# EAGLE library part MEAS-MS5611 (library OSURC_Sensors)
Fast, accurate barometer.
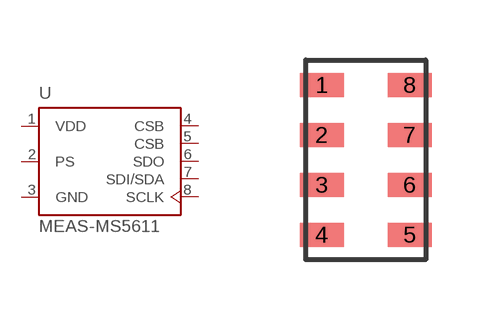
[diagram p0: symbol with the pads of MEAS-MS5611; footprint MEAS-MS5611]

Designator prefix U

## MEAS-MS5611 (CDI_PN: MS561101BA03-50)  [MEAS-MS5611]
1  VDD  pwr
2  PS  in
3  GND  pwr
4  CSB  in
5  CSB  in
6  SDO  out
7  SDI/SDA
8  SCLK  in

## Footprint MEAS-MS5611 (pad centres in mm)
smd 1.1 x 0.6: 1 -1.1,1.875; 2 -1.1,0.625; 3 -1.1,-0.625; 4 -1.1,-1.875; 5 1.1,-1.875; 6 1.1,-0.625; 7 1.1,0.625; 8 1.1,1.875